# EAGLE library part FX10A-168S-SV (library SamacSys_Parts)
Hirose FX10 Series 0.5mm Pitch 168 Way 2 Row Straight PCB Socket, Surface Mount, Solder Termination Source: Datasheet <https://componentsearchengine.com/Datasheets/1/FX10A-168S-SV.pdf>
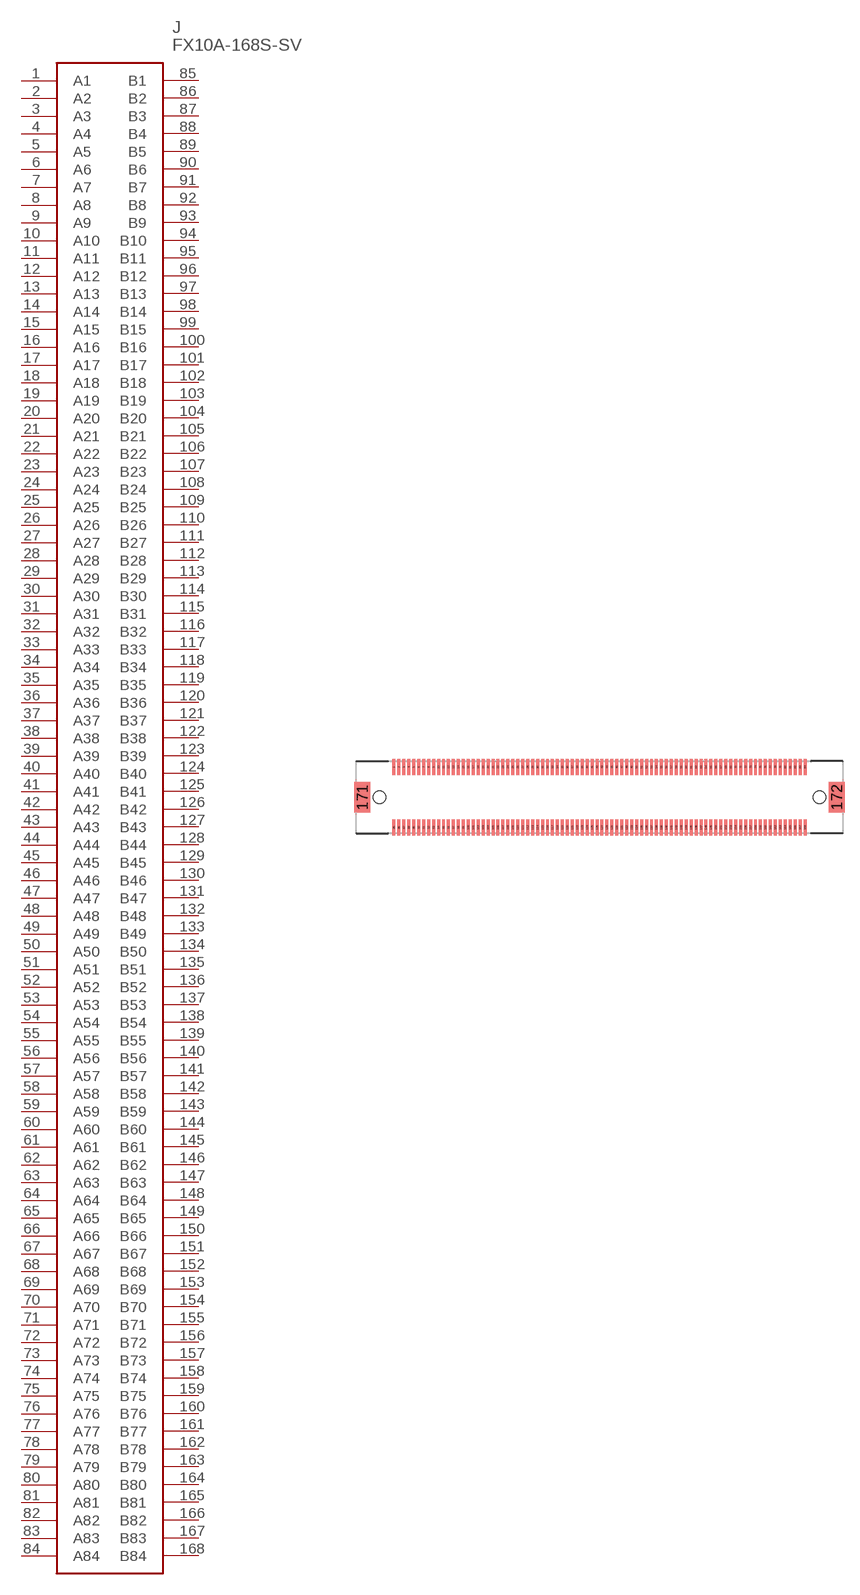
[diagram p11: symbol with the pads of FX10A-168S-SV; footprint FX10A-168S-SV]

Designator prefix J

## FX10A-168S-SV (DESCRIPTION: Hirose FX10 Series 0.5mm Pitch 168 Way 2 Row Straight PCB Socket, Surface Mount, Solder Termination; HEIGHT: mm; MANUFACTURER_NAME: Hirose; MANUFACTURER_PART_NUMBER: FX10A-168S-SV; MOUSER_PART_NUMBER: 798-FX10A168SSV; MOUSER_PRICE-STOCK: https://www.mouser.com/Search/Refine.aspx?Keyword=798-FX10A168SSV)  [FX10A-168S-SV]
1  A1
2  A2
3  A3
4  A4
5  A5
6  A6
7  A7
8  A8
9  A9
10  A10
11  A11
12  A12
13  A13
14  A14
15  A15
16  A16
17  A17
18  A18
19  A19
20  A20
21  A21
22  A22
23  A23
24  A24
25  A25
26  A26
27  A27
28  A28
29  A29
30  A30
31  A31
32  A32
33  A33
34  A34
35  A35
36  A36
37  A37
38  A38
39  A39
40  A40
41  A41
42  A42
43  A43
44  A44
45  A45
46  A46
47  A47
48  A48
49  A49
50  A50
51  A51
52  A52
53  A53
54  A54
55  A55
56  A56
57  A57
58  A58
59  A59
60  A60
61  A61
62  A62
63  A63
64  A64
65  A65
66  A66
67  A67
68  A68
69  A69
70  A70
71  A71
72  A72
73  A73
74  A74
75  A75
76  A76
77  A77
78  A78
79  A79
80  A80
81  A81
82  A82
83  A83
84  A84
85  B1
86  B2
87  B3
88  B4
89  B5
90  B6
91  B7
92  B8
93  B9
94  B10
95  B11
96  B12
97  B13
98  B14
99  B15
100  B16
101  B17
102  B18
103  B19
104  B20
105  B21
106  B22
107  B23
108  B24
109  B25
110  B26
111  B27
112  B28
113  B29
114  B30
115  B31
116  B32
117  B33
118  B34
119  B35
120  B36
121  B37
122  B38
123  B39
124  B40
125  B41
126  B42
127  B43
128  B44
129  B45
130  B46
131  B47
132  B48
133  B49
134  B50
135  B51
136  B52
137  B53
138  B54
139  B55
140  B56
141  B57
142  B58
143  B59
144  B60
145  B61
146  B62
147  B63
148  B64
149  B65
150  B66
151  B67
152  B68
153  B69
154  B70
155  B71
156  B72
157  B73
158  B74
159  B75
160  B76
161  B77
162  B78
163  B79
164  B80
165  B81
166  B82
167  B83
168  B84

## Footprint FX10A-168S-SV (pad centres in mm)
FX10A-168S-SV
smd 0.3 x 1.6: 1 -20.75,3.05; 2 -20.25,3.05; 3 -19.75,3.05; 4 -19.25,3.05; 5 -18.75,3.05; 6 -18.25,3.05; 7 -17.75,3.05; 8 -17.25,3.05; 9 -16.75,3.05; 10 -16.25,3.05; 11 -15.75,3.05; 12 -15.25,3.05; 13 -14.75,3.05; 14 -14.25,3.05; 15 -13.75,3.05; 16 -13.25,3.05; 17 -12.75,3.05; 18 -12.25,3.05; 19 -11.75,3.05; 20 -11.25,3.05; 21 -10.75,3.05; 22 -10.25,3.05; 23 -9.75,3.05; 24 -9.25,3.05; 25 -8.75,3.05; 26 -8.25,3.05; 27 -7.75,3.05; 28 -7.25,3.05; 29 -6.75,3.05; 30 -6.25,3.05; 31 -5.75,3.05; 32 -5.25,3.05; 33 -4.75,3.05; 34 -4.25,3.05; 35 -3.75,3.05; 36 -3.25,3.05; 37 -2.75,3.05; 38 -2.25,3.05; 39 -1.75,3.05; 40 -1.25,3.05; 41 -0.75,3.05; 42 -0.25,3.05; 43 0.25,3.05; 44 0.75,3.05; 45 1.25,3.05; 46 1.75,3.05; 47 2.25,3.05; 48 2.75,3.05; 49 3.25,3.05; 50 3.75,3.05; 51 4.25,3.05; 52 4.75,3.05; 53 5.25,3.05; 54 5.75,3.05; 55 6.25,3.05; 56 6.75,3.05; 57 7.25,3.05; 58 7.75,3.05; 59 8.25,3.05; 60 8.75,3.05; 61 9.25,3.05; 62 9.75,3.05; 63 10.25,3.05; 64 10.75,3.05; 65 11.25,3.05; 66 11.75,3.05; 67 12.25,3.05; 68 12.75,3.05; 69 13.25,3.05; 70 13.75,3.05; 71 14.25,3.05; 72 14.75,3.05; 73 15.25,3.05; 74 15.75,3.05; 75 16.25,3.05; 76 16.75,3.05; 77 17.25,3.05; 78 17.75,3.05; 79 18.25,3.05; 80 18.75,3.05; 81 19.25,3.05; 82 19.75,3.05; 83 20.25,3.05; 84 20.75,3.05; 85 -20.75,-3.05; 86 -20.25,-3.05; 87 -19.75,-3.05; 88 -19.25,-3.05; 89 -18.75,-3.05; 90 -18.25,-3.05; 91 -17.75,-3.05; 92 -17.25,-3.05; 93 -16.75,-3.05; 94 -16.25,-3.05; 95 -15.75,-3.05; 96 -15.25,-3.05; 97 -14.75,-3.05; 98 -14.25,-3.05; 99 -13.75,-3.05; 100 -13.25,-3.05; 101 -12.75,-3.05; 102 -12.25,-3.05; 103 -11.75,-3.05; 104 -11.25,-3.05; 105 -10.75,-3.05; 106 -10.25,-3.05; 107 -9.75,-3.05; 108 -9.25,-3.05; 109 -8.75,-3.05; 110 -8.25,-3.05; 111 -7.75,-3.05; 112 -7.25,-3.05; 113 -6.75,-3.05; 114 -6.25,-3.05; 115 -5.75,-3.05; 116 -5.25,-3.05; 117 -4.75,-3.05; 118 -4.25,-3.05; 119 -3.75,-3.05; 120 -3.25,-3.05; 121 -2.75,-3.05; 122 -2.25,-3.05; 123 -1.75,-3.05; 124 -1.25,-3.05; 125 -0.75,-3.05; 126 -0.25,-3.05; 127 0.25,-3.05; 128 0.75,-3.05; 129 1.25,-3.05; 130 1.75,-3.05; 131 2.25,-3.05; 132 2.75,-3.05; 133 3.25,-3.05; 134 3.75,-3.05; 135 4.25,-3.05; 136 4.75,-3.05; 137 5.25,-3.05; 138 5.75,-3.05; 139 6.25,-3.05; 140 6.75,-3.05; 141 7.25,-3.05; 142 7.75,-3.05; 143 8.25,-3.05; 144 8.75,-3.05; 145 9.25,-3.05; 146 9.75,-3.05; 147 10.25,-3.05; 148 10.75,-3.05; 149 11.25,-3.05; 150 11.75,-3.05; 151 12.25,-3.05; 152 12.75,-3.05; 153 13.25,-3.05; 154 13.75,-3.05; 155 14.25,-3.05; 156 14.75,-3.05; 157 15.25,-3.05; 158 15.75,-3.05; 159 16.25,-3.05; 160 16.75,-3.05; 161 17.25,-3.05; 162 17.75,-3.05; 163 18.25,-3.05; 164 18.75,-3.05; 165 19.25,-3.05; 166 19.75,-3.05; 167 20.25,-3.05; 168 20.75,-3.05
smd 1.6 x 3.1: 171 -23.95,0; 172 23.95,0
hole 1.25 at -22.2,0
hole 1.25 at 22.2,0